# Altium footprint library linx.PCBLIB: 5 footprints
Each footprint in its own frame and in the unit in brackets; x right, y up, seen from the top. Pads: shape width x height; smd on the part's side, far side on the other; paste and mask are expansions set on the pad; w line width, h text height; cw(c..) or ccw(c..) is an arc to the next point about the centre after c.
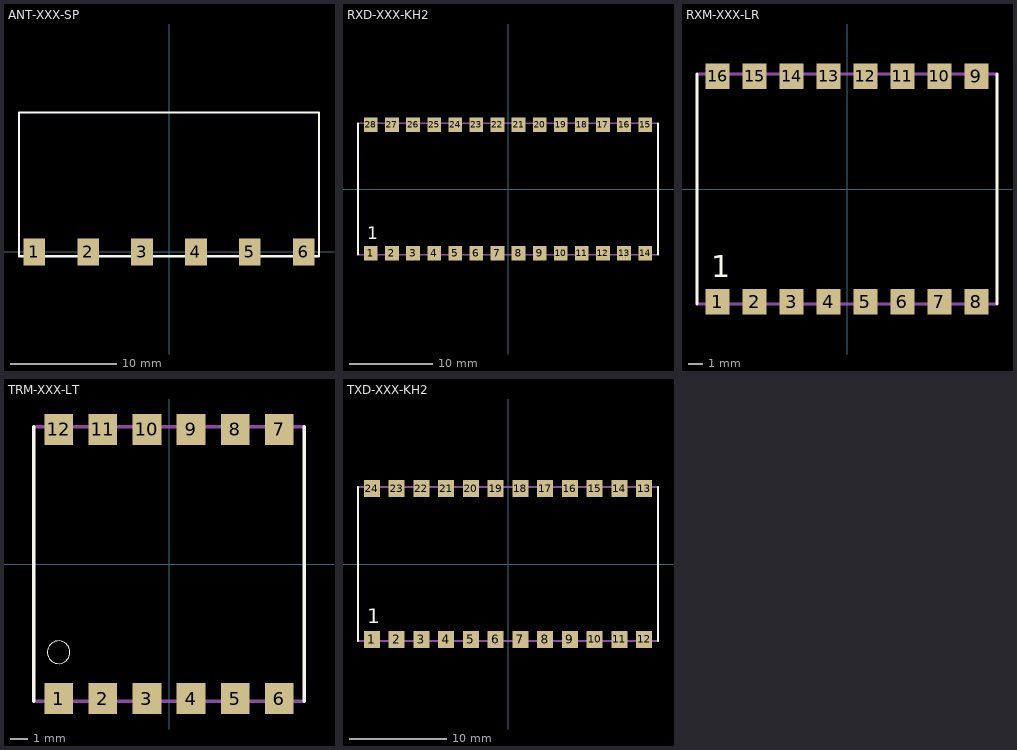
[diagram p0: the footprints below, top view; thin cyan lines are the x and y axes]

## ANT-XXX-SP [mil]
pads (6):
  rect 80x100 smd: 1(-500,0) 2(-300,0) 3(-100,0) 4(100,0) 5(300,0) 6(500,0)
Top Overlay:
  lines w8: -556.1,-16.06 556.1,-16.06 556.1,516.06 -556.1,516.06 -556.1,-16.06

## RXD-XXX-KH2 [mil]
pads (28):
  rect 65x70 smd: 1(-650,-305) 2(-550,-305) 3(-450,-305) 4(-350,-305) 5(-250,-305) 6(-150,-305) 7(-50,-305) 8(50,-305) 9(150,-305) 10(250,-305) 11(350,-305) 12(450,-305) 13(550,-305) 14(650,-305) 15(650,305) 16(550,305) 17(450,305) 18(350,305) 19(250,305) 20(150,305) 21(50,305) 22(-50,305) 23(-150,305) 24(-250,305) 25(-350,305) 26(-450,305) 27(-550,305) 28(-650,305)
Top Overlay:
  lines w8: -710.92,-311 -710.92,311 ; 710.92,-311 710.92,311
  text "1" at -667.91,-239.17 h59.5
Mechanical 16:
  lines w8: -710.92,-311 710.92,-311 ; -710.92,311 710.92,311

## RXM-XXX-LR [mil]
pads (16):
  rect 65x70 smd: 1(-350,-305) 2(-250,-305) 3(-150,-305) 4(-50,-305) 5(50,-305) 6(150,-305) 7(250,-305) 8(350,-305) 9(350,305) 10(250,305) 11(150,305) 12(50,305) 13(-50,305) 14(-150,305) 15(-250,305) 16(-350,305)
Top Overlay:
  lines w8: -406,-311 -406,311 ; 406,-311 406,311
  text "1" at -367.91,-239.17 h59.5
Mechanical 16:
  lines w8: -406,-311 406,-311 ; -406,311 406,311

## TRM-XXX-LT [mil]
pads (12):
  rect 65x70 smd: 1(-250,-305) 2(-150,-305) 3(-50,-305) 4(50,-305) 5(150,-305) 6(250,-305) 7(250,305) 8(150,305) 9(50,305) 10(-50,305) 11(-150,305) 12(-250,305)
Top Overlay:
  circle w0: c-250,-200 r25.59
  lines w8: -306.1,-311.02 -306.1,311.02 ; 306.1,-311.02 306.1,311.02
Mechanical 16:
  lines w8: -306.1,-311.02 306.1,-311.02 ; -306.1,311.02 306.1,311.02

## TXD-XXX-KH2 [mil]
pads (24):
  rect 65x70 smd: 1(-550,-305) 2(-450,-305) 3(-350,-305) 4(-250,-305) 5(-150,-305) 6(-50,-305) 7(50,-305) 8(150,-305) 9(250,-305) 10(350,-305) 11(450,-305) 12(550,-305) 13(550,305) 14(450,305) 15(350,305) 16(250,305) 17(150,305) 18(50,305) 19(-50,305) 20(-150,305) 21(-250,305) 22(-350,305) 23(-450,305) 24(-550,305)
Top Overlay:
  lines w8: -606,-311 -606,311 ; 606,-311 606,311
  text "1" at -567.91,-239.17 h59.5
Mechanical 16:
  lines w8: -606,-311 606,-311 ; -606,311 606,311